# EAGLE library part HEADER2X4 (library untitled)
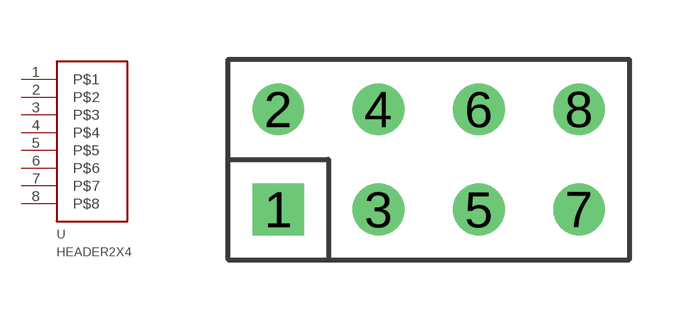
[diagram p24: symbol with the pads of M2X4; footprint M2X4]

Designator prefix -

## HEADER2X4PTH  [M2X4]
1  P$1
2  P$2
3  P$3
4  P$4
5  P$5
6  P$6
7  P$7
8  P$8

## Footprint M2X4 (pad centres in mm)
drill 0.8 square: 1 -3.81,-1.27
drill 0.8 round: 2 -3.81,1.27; 3 -1.27,-1.27; 4 -1.27,1.27; 5 1.27,-1.27; 6 1.27,1.27; 7 3.81,-1.27; 8 3.81,1.27